# Altium footprint library Pololu_G2_Motor_Driver_24v21.PcbLib: 1 footprints
Each footprint in its own frame and in the unit in brackets; x right, y up, seen from the top. Pads: shape width x height; smd on the part's side, far side on the other; paste and mask are expansions set on the pad; w line width, h text height; cw(c..) or ccw(c..) is an arc to the next point about the centre after c.
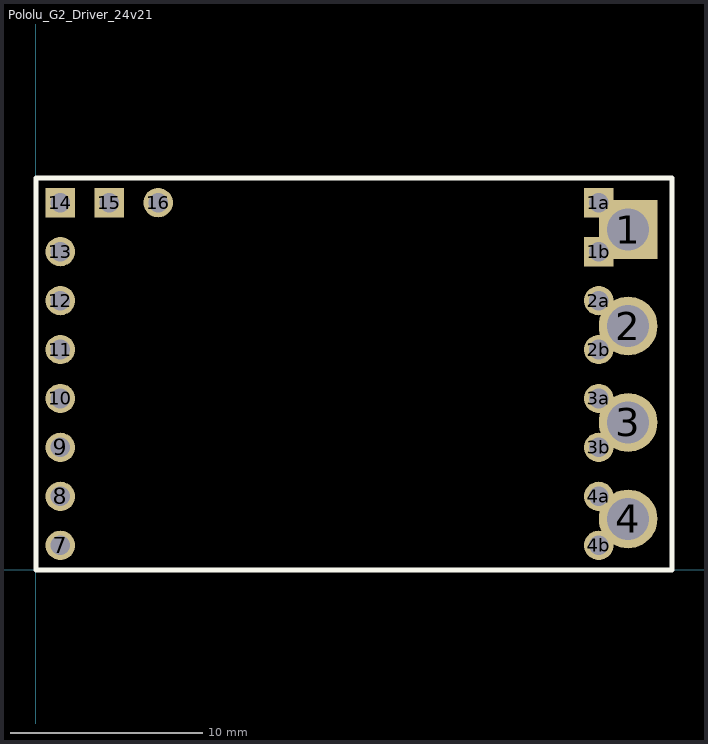
[diagram p0: the footprint, top view; thin cyan lines are the x and y axes]

## Pololu_G2_Driver_24v21 [mil] "Pololu G2 High-Power Motor Driver 24v21"
pads (22):
  rect 120x120 hole 86: 1(1210,695)
  rect 60x60 hole 40: 1a(1150,750) 1b(1150,650) 14(50,750) 15(150,750)
  round 120 hole 86: 2(1210,498) 3(1210,301) 4(1210,104)
  round 60 hole 40: 2a(1150,550) 2b(1150,450) 3a(1150,350) 3b(1150,250) 4a(1150,150) 4b(1150,50) 7(50,50) 8(50,150) 9(50,250) 10(50,350) 11(50,450) 12(50,550) 13(50,650) 16(250,750)
Top Overlay:
  lines w10: 0,0 0,800 1300,800 1300,0 0,0